# EAGLE library part 739-110/100-004 (library con-wago_739)
Serie 739, Stand: 01.01.2012. Die jeweils aktuellen Daten zu diesem Artikel finden Sie in unserem Produktkatalog, den Sie unter www.wago.com einsehen können. As of: 01/01/2012. Please find the newest data for this article in our product catalogue, which can be viewed under www.wago.com.
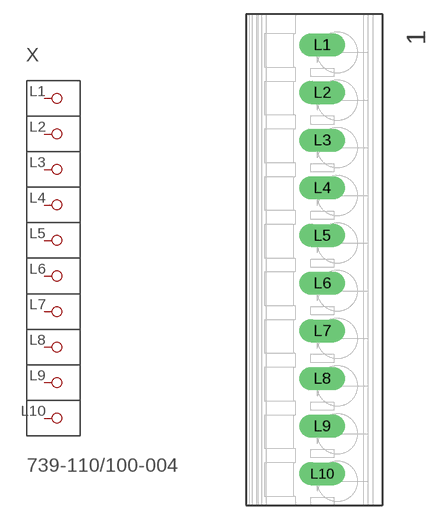
[diagram p118: symbol with the pads of P-739-110/100-000; footprint P-739-110/100-000]

Designator prefix X

## 739-110/100-004  [P-739-110/100-000]
L1  P1
L2  P2
L3  P3
L4  P4
L5  P5
L6  P6
L7  P7
L8  P8
L9  P9
L10  P10

## Footprint P-739-110/100-000 (pad centres in mm)
drill 1.6 long: L1 0.85,22.55; L2 0.85,17.55; L3 0.85,12.55; L4 0.85,7.55; L5 0.85,2.55; L6 0.85,-2.45; L7 0.85,-7.45; L8 0.85,-12.45; L9 0.85,-17.45; L10 0.85,-22.45